# EAGLE library part JS202011JAQN (library inker_super_board_parts)
JS Series Sub-Miniature Slide Switch Source: Datasheet <https://www.ckswitches.com/media/1422/js.pdf>
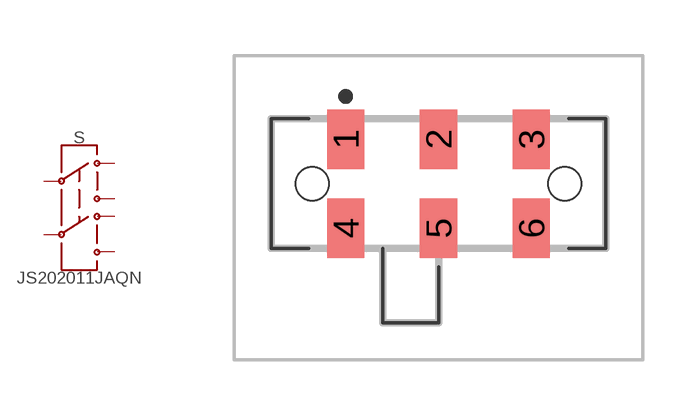
[diagram p2: symbol with the pads of JS202011JAQN; footprint JS202011JAQN]

Designator prefix S

## JS202011JAQN (DESCRIPTION: JS Series Sub-Miniature Slide Switch; MANUFACTURER_NAME: C & K COMPONENTS; MANUFACTURER_PART_NUMBER: JS202011JAQN)  [JS202011JAQN]
1  1
2  2
3  3
4  4
5  5
6  6

## Footprint JS202011JAQN (pad centres in mm)
JS202011JAQN
smd 1 x 1.6: 1 -2.5,2.95; 2 0,2.95; 3 2.5,2.95; 4 -2.5,0.55; 5 0,0.55; 6 2.5,0.55
hole 0.9 at -3.4,1.75
hole 0.9 at 3.4,1.75